# EAGLE library part STM32-JTAG-FFC (library Pygmy)
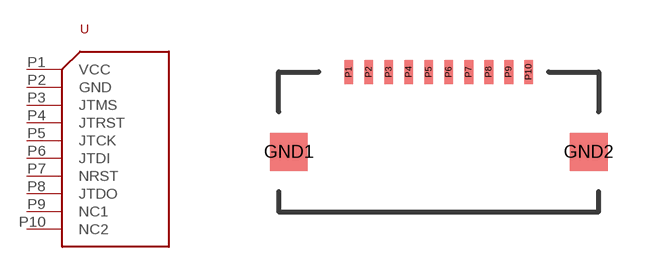
[diagram p92: symbol with the pads of FCI-FFC-10P-51281-1494; footprint FCI-FFC-10P-51281-1494]

Designator prefix -

## STM32-JTAG-FFC  [FCI-FFC-10P-51281-1494]
P1  VCC
P2  GND
P3  JTMS
P4  JTRST
P5  JTCK
P6  JTDI
P7  NRST
P8  JTDO
P9  NC1
P10  NC2

## Footprint FCI-FFC-10P-51281-1494 (pad centres in mm)
smd 0.95 x 0.95: GND1 -3.75,-2; GND2 3.75,-2
smd 0.225 x 0.6: P1 -2.25,0; P2 -1.75,0; P3 -1.25,0; P4 -0.75,0; P5 -0.25,0; P6 0.25,0; P7 0.75,0; P8 1.25,0; P9 1.75,0; P10 2.25,0